# Altium footprint library ESP8684H2.PcbLib: 3 footprints
Each footprint in its own frame and in the unit in brackets; x right, y up, seen from the top. Pads: shape width x height; smd on the part's side, far side on the other; paste and mask are expansions set on the pad; w line width, h text height; cw(c..) or ccw(c..) is an arc to the next point about the centre after c.
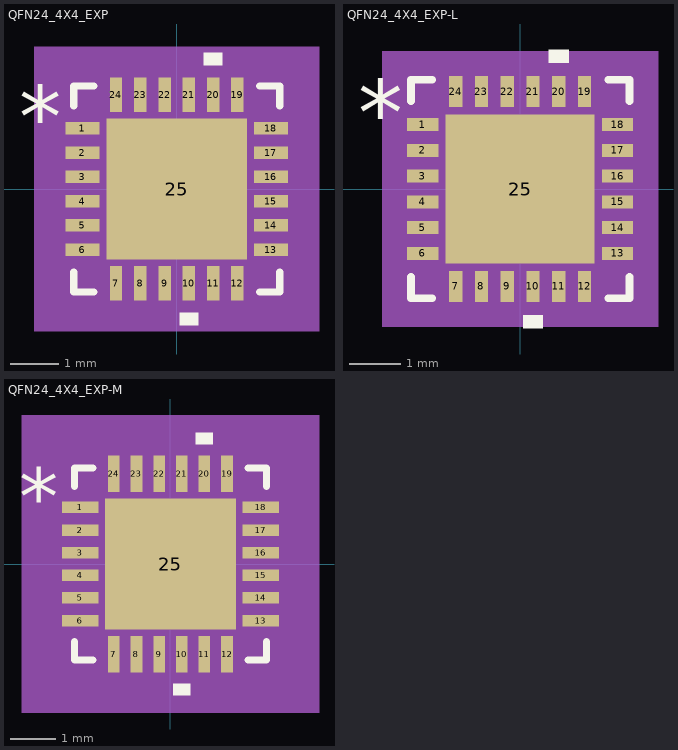
[diagram p0: the footprints below, top view; thin cyan lines are the x and y axes]

## QFN24_4X4_EXP [mm]
pads (25):
  rect 0.706x0.255 smd paste+0 mask+0: 1(-1.941,1.25) 2(-1.941,0.75) 3(-1.941,0.25) 4(-1.941,-0.25) 5(-1.941,-0.75) 6(-1.941,-1.25) 13(1.941,-1.25) 14(1.941,-0.75) 15(1.941,-0.25) 16(1.941,0.25) 17(1.941,0.75) 18(1.941,1.25)
  rect 0.255x0.706 smd paste+0 mask+0: 7(-1.25,-1.941) 8(-0.75,-1.941) 9(-0.25,-1.941) 10(0.25,-1.941) 11(0.75,-1.941) 12(1.25,-1.941) 19(1.25,1.941) 20(0.75,1.941) 21(0.25,1.941) 22(-0.25,1.941) 23(-0.75,1.941) 24(-1.25,1.941)
  rect 2.896x2.896 smd paste-1.435 mask+0: 25(0,0)
Top Overlay:
  region: 0.44,-2.548 0.059,-2.548 0.059,-2.802 0.44,-2.802
  region: 0.941,2.548 0.56,2.548 0.56,2.802 0.941,2.802
  lines w0.152: -2.121,-1.71 -2.121,-2.121 -1.71,-2.121 ; -2.121,1.71 -2.121,2.121 -1.71,2.121 ; 1.71,-2.121 2.121,-2.121 2.121,-1.71 ; 1.71,2.121 2.121,2.121 2.121,1.71
  text "*" at -3.246,0.865 h1.27
Top Paste:
  region: -0.1,1.348 -1.348,1.348 -1.348,0.1 -0.1,0.1
  region: -0.1,-0.1 -1.348,-0.1 -1.348,-1.348 -0.1,-1.348
  region: 1.348,1.348 0.1,1.348 0.1,0.1 1.348,0.1
  region: 1.348,-0.1 0.1,-0.1 0.1,-1.348 1.348,-1.348
Mechanical 5:
  region: 2.929,-2.929 -2.929,-2.929 -2.929,2.929 2.929,2.929
Mechanical 13:
  lines w0.025: -1.994,0.724 -0.724,1.994 ; -1.994,-1.994 1.994,-1.994 ; -1.994,-1.994 -1.994,1.994 ; -1.994,-1.994 -1.994,-1.994 ; -1.994,-1.402 -1.994,-1.098 ; -1.994,-1.402 -1.994,-1.098 ; -1.994,-1.402 -1.994,-1.402 ; -1.994,-1.098 -1.994,-1.098 ; -1.994,-0.902 -1.994,-0.598 ; -1.994,-0.902 -1.994,-0.598 ; -1.994,-0.902 -1.994,-0.902 ; -1.994,-0.598 -1.994,-0.598 ; -1.994,-0.402 -1.994,-0.098 ; -1.994,-0.402 -1.994,-0.098 ; -1.994,-0.402 -1.994,-0.402 ; -1.994,-0.098 -1.994,-0.098 ; -1.994,0.098 -1.994,0.402 ; -1.994,0.098 -1.994,0.402 ; -1.994,0.098 -1.994,0.098 ; -1.994,0.402 -1.994,0.402 ; -1.994,0.598 -1.994,0.902 ; -1.994,0.598 -1.994,0.902 ; -1.994,0.598 -1.994,0.598 ; -1.994,0.902 -1.994,0.902 ; -1.994,1.098 -1.994,1.402 ; -1.994,1.098 -1.994,1.402 ; -1.994,1.098 -1.994,1.098 ; -1.994,1.402 -1.994,1.402 ; -1.994,1.994 1.994,1.994 ; -1.994,1.994 -1.994,1.994 ; -1.402,-1.994 -1.098,-1.994 ; -1.402,-1.994 -1.402,-1.994 ; -1.402,-1.994 -1.098,-1.994 ; -1.402,1.994 -1.098,1.994 ; -1.402,1.994 -1.098,1.994 ; -1.402,1.994 -1.402,1.994 ; -1.098,-1.994 -1.098,-1.994 ; -1.098,1.994 -1.098,1.994 ; -0.902,-1.994 -0.598,-1.994 ; -0.902,-1.994 -0.902,-1.994 ; -0.902,-1.994 -0.598,-1.994 ; -0.902,1.994 -0.598,1.994 ; -0.902,1.994 -0.598,1.994 ; -0.902,1.994 -0.902,1.994 ; -0.598,-1.994 -0.598,-1.994 ; -0.598,1.994 -0.598,1.994 ; -0.402,-1.994 -0.098,-1.994 ; -0.402,-1.994 -0.402,-1.994 ; -0.402,-1.994 -0.098,-1.994 ; -0.402,1.994 -0.098,1.994 ; -0.402,1.994 -0.098,1.994 ; -0.402,1.994 -0.402,1.994 ; -0.098,-1.994 -0.098,-1.994 ; -0.098,1.994 -0.098,1.994 ; 0.098,-1.994 0.402,-1.994 ; 0.098,-1.994 0.098,-1.994 ; 0.098,-1.994 0.402,-1.994 ; 0.098,1.994 0.402,1.994 ; 0.098,1.994 0.402,1.994 ; 0.098,1.994 0.098,1.994 ; 0.402,-1.994 0.402,-1.994 ; 0.402,1.994 0.402,1.994 ; 0.598,-1.994 0.902,-1.994 ; 0.598,-1.994 0.598,-1.994 ; 0.598,-1.994 0.902,-1.994 ; 0.598,1.994 0.902,1.994 ; 0.598,1.994 0.902,1.994 ; 0.598,1.994 0.598,1.994 ; 0.902,-1.994 0.902,-1.994 ; 0.902,1.994 0.902,1.994 ; 1.098,-1.994 1.402,-1.994 ; 1.098,-1.994 1.098,-1.994 ; 1.098,-1.994 1.402,-1.994 ; 1.098,1.994 1.402,1.994 ; 1.098,1.994 1.402,1.994 ; 1.098,1.994 1.098,1.994 ; 1.402,-1.994 1.402,-1.994 ; 1.402,1.994 1.402,1.994 ; 1.994,-1.994 1.994,-1.994 ; 1.994,-1.994 1.994,1.994 ; 1.994,-1.402 1.994,-1.098 ; 1.994,-1.402 1.994,-1.402 ; 1.994,-1.402 1.994,-1.098 ; 1.994,-1.098 1.994,-1.098 ; 1.994,-0.902 1.994,-0.598 ; 1.994,-0.902 1.994,-0.902 ; 1.994,-0.902 1.994,-0.598 ; 1.994,-0.598 1.994,-0.598 ; 1.994,-0.402 1.994,-0.098 ; 1.994,-0.402 1.994,-0.402 ; 1.994,-0.402 1.994,-0.098 ; 1.994,-0.098 1.994,-0.098 ; 1.994,0.098 1.994,0.402 ; 1.994,0.098 1.994,0.098 ; 1.994,0.098 1.994,0.402 ; 1.994,0.402 1.994,0.402 ; 1.994,0.598 1.994,0.902 ; 1.994,0.598 1.994,0.598 ; 1.994,0.598 1.994,0.902 ; 1.994,0.902 1.994,0.902 ; 1.994,1.098 1.994,1.402 ; 1.994,1.098 1.994,1.098 ; 1.994,1.098 1.994,1.402 ; 1.994,1.402 1.994,1.402 ; 1.994,1.994 1.994,1.994
  text "*" at -1.905,0.865 h1.27
Mechanical 15:
  region: -1.631,-2.248 -2.248,-2.248 -2.248,-1.631 -2.548,-1.631 -2.548,1.631 -2.248,1.631 -2.248,2.248 -1.631,2.248 -1.631,2.548 1.631,2.548 1.631,2.248 2.248,2.248 2.248,1.631 2.548,1.631 2.548,-1.631 2.248,-1.631 2.248,-2.248 1.631,-2.248 1.631,-2.548 -1.631,-2.548
  lines w0.152: -2.548,-1.631 -2.248,-1.631 -2.248,-2.248 -1.631,-2.248 -1.631,-2.548 1.631,-2.548 1.631,-2.248 2.248,-2.248 2.248,-1.631 2.548,-1.631 2.548,1.631 2.248,1.631 2.248,2.248 1.631,2.248 1.631,2.548 -1.631,2.548 -1.631,2.248 -2.248,2.248 -2.248,1.631 -2.548,1.631 -2.548,-1.631
3D body "QFN24_4X4_EXP.step": height 0.89, standoff 0, extent -1.994,-1.994 1.994,1.994

## QFN24_4X4_EXP-L [mm]
pads (25):
  rect 0.606x0.255 smd paste+0 mask+0: 1(-1.891,1.25) 2(-1.891,0.75) 3(-1.891,0.25) 4(-1.891,-0.25) 5(-1.891,-0.75) 6(-1.891,-1.25) 13(1.891,-1.25) 14(1.891,-0.75) 15(1.891,-0.25) 16(1.891,0.25) 17(1.891,0.75) 18(1.891,1.25)
  rect 0.255x0.606 smd paste+0 mask+0: 7(-1.25,-1.891) 8(-0.75,-1.891) 9(-0.25,-1.891) 10(0.25,-1.891) 11(0.75,-1.891) 12(1.25,-1.891) 19(1.25,1.891) 20(0.75,1.891) 21(0.25,1.891) 22(-0.25,1.891) 23(-0.75,1.891) 24(-1.25,1.891)
  rect 2.896x2.896 smd paste-1.435 mask+0: 25(0,0)
Top Overlay:
  region: 0.44,-2.448 0.059,-2.448 0.059,-2.702 0.44,-2.702
  region: 0.941,2.448 0.56,2.448 0.56,2.702 0.941,2.702
  lines w0.152: -2.121,-1.71 -2.121,-2.121 -1.71,-2.121 ; -2.121,1.71 -2.121,2.121 -1.71,2.121 ; 1.71,-2.121 2.121,-2.121 2.121,-1.71 ; 1.71,2.121 2.121,2.121 2.121,1.71
  text "*" at -3.146,0.865 h1.27
Top Paste:
  region: -0.1,1.348 -1.348,1.348 -1.348,0.1 -0.1,0.1
  region: -0.1,-0.1 -1.348,-0.1 -1.348,-1.348 -0.1,-1.348
  region: 1.348,1.348 0.1,1.348 0.1,0.1 1.348,0.1
  region: 1.348,-0.1 0.1,-0.1 0.1,-1.348 1.348,-1.348
Mechanical 5:
  region: 2.676,-2.676 -2.676,-2.676 -2.676,2.676 2.676,2.676
Mechanical 13:
  lines w0.025: -1.994,0.724 -0.724,1.994 ; -1.994,-1.994 1.994,-1.994 ; -1.994,-1.994 -1.994,1.994 ; -1.994,-1.994 -1.994,-1.994 ; -1.994,-1.402 -1.994,-1.098 ; -1.994,-1.402 -1.994,-1.098 ; -1.994,-1.402 -1.994,-1.402 ; -1.994,-1.098 -1.994,-1.098 ; -1.994,-0.902 -1.994,-0.598 ; -1.994,-0.902 -1.994,-0.598 ; -1.994,-0.902 -1.994,-0.902 ; -1.994,-0.598 -1.994,-0.598 ; -1.994,-0.402 -1.994,-0.098 ; -1.994,-0.402 -1.994,-0.098 ; -1.994,-0.402 -1.994,-0.402 ; -1.994,-0.098 -1.994,-0.098 ; -1.994,0.098 -1.994,0.402 ; -1.994,0.098 -1.994,0.402 ; -1.994,0.098 -1.994,0.098 ; -1.994,0.402 -1.994,0.402 ; -1.994,0.598 -1.994,0.902 ; -1.994,0.598 -1.994,0.902 ; -1.994,0.598 -1.994,0.598 ; -1.994,0.902 -1.994,0.902 ; -1.994,1.098 -1.994,1.402 ; -1.994,1.098 -1.994,1.402 ; -1.994,1.098 -1.994,1.098 ; -1.994,1.402 -1.994,1.402 ; -1.994,1.994 1.994,1.994 ; -1.994,1.994 -1.994,1.994 ; -1.402,-1.994 -1.098,-1.994 ; -1.402,-1.994 -1.402,-1.994 ; -1.402,-1.994 -1.098,-1.994 ; -1.402,1.994 -1.098,1.994 ; -1.402,1.994 -1.098,1.994 ; -1.402,1.994 -1.402,1.994 ; -1.098,-1.994 -1.098,-1.994 ; -1.098,1.994 -1.098,1.994 ; -0.902,-1.994 -0.598,-1.994 ; -0.902,-1.994 -0.902,-1.994 ; -0.902,-1.994 -0.598,-1.994 ; -0.902,1.994 -0.598,1.994 ; -0.902,1.994 -0.598,1.994 ; -0.902,1.994 -0.902,1.994 ; -0.598,-1.994 -0.598,-1.994 ; -0.598,1.994 -0.598,1.994 ; -0.402,-1.994 -0.098,-1.994 ; -0.402,-1.994 -0.402,-1.994 ; -0.402,-1.994 -0.098,-1.994 ; -0.402,1.994 -0.098,1.994 ; -0.402,1.994 -0.098,1.994 ; -0.402,1.994 -0.402,1.994 ; -0.098,-1.994 -0.098,-1.994 ; -0.098,1.994 -0.098,1.994 ; 0.098,-1.994 0.402,-1.994 ; 0.098,-1.994 0.098,-1.994 ; 0.098,-1.994 0.402,-1.994 ; 0.098,1.994 0.402,1.994 ; 0.098,1.994 0.402,1.994 ; 0.098,1.994 0.098,1.994 ; 0.402,-1.994 0.402,-1.994 ; 0.402,1.994 0.402,1.994 ; 0.598,-1.994 0.902,-1.994 ; 0.598,-1.994 0.598,-1.994 ; 0.598,-1.994 0.902,-1.994 ; 0.598,1.994 0.902,1.994 ; 0.598,1.994 0.902,1.994 ; 0.598,1.994 0.598,1.994 ; 0.902,-1.994 0.902,-1.994 ; 0.902,1.994 0.902,1.994 ; 1.098,-1.994 1.402,-1.994 ; 1.098,-1.994 1.098,-1.994 ; 1.098,-1.994 1.402,-1.994 ; 1.098,1.994 1.402,1.994 ; 1.098,1.994 1.402,1.994 ; 1.098,1.994 1.098,1.994 ; 1.402,-1.994 1.402,-1.994 ; 1.402,1.994 1.402,1.994 ; 1.994,-1.994 1.994,-1.994 ; 1.994,-1.994 1.994,1.994 ; 1.994,-1.402 1.994,-1.098 ; 1.994,-1.402 1.994,-1.402 ; 1.994,-1.402 1.994,-1.098 ; 1.994,-1.098 1.994,-1.098 ; 1.994,-0.902 1.994,-0.598 ; 1.994,-0.902 1.994,-0.902 ; 1.994,-0.902 1.994,-0.598 ; 1.994,-0.598 1.994,-0.598 ; 1.994,-0.402 1.994,-0.098 ; 1.994,-0.402 1.994,-0.402 ; 1.994,-0.402 1.994,-0.098 ; 1.994,-0.098 1.994,-0.098 ; 1.994,0.098 1.994,0.402 ; 1.994,0.098 1.994,0.098 ; 1.994,0.098 1.994,0.402 ; 1.994,0.402 1.994,0.402 ; 1.994,0.598 1.994,0.902 ; 1.994,0.598 1.994,0.598 ; 1.994,0.598 1.994,0.902 ; 1.994,0.902 1.994,0.902 ; 1.994,1.098 1.994,1.402 ; 1.994,1.098 1.994,1.098 ; 1.994,1.098 1.994,1.402 ; 1.994,1.402 1.994,1.402 ; 1.994,1.994 1.994,1.994
  text "*" at -1.905,0.865 h1.27
Mechanical 15:
  region: -1.479,-2.095 -2.095,-2.095 -2.095,-1.479 -2.295,-1.479 -2.295,1.479 -2.095,1.479 -2.095,2.095 -1.479,2.095 -1.479,2.295 1.479,2.295 1.479,2.095 2.095,2.095 2.095,1.479 2.295,1.479 2.295,-1.479 2.095,-1.479 2.095,-2.095 1.479,-2.095 1.479,-2.295 -1.479,-2.295
  lines w0.152: -2.295,-1.479 -2.095,-1.479 -2.095,-2.095 -1.479,-2.095 -1.479,-2.295 1.479,-2.295 1.479,-2.095 2.095,-2.095 2.095,-1.479 2.295,-1.479 2.295,1.479 2.095,1.479 2.095,2.095 1.479,2.095 1.479,2.295 -1.479,2.295 -1.479,2.095 -2.095,2.095 -2.095,1.479 -2.295,1.479 -2.295,-1.479
3D body "QFN24_4X4_EXP.step": height 0.89, standoff 0, extent -1.994,-1.994 1.994,1.994

## QFN24_4X4_EXP-M [mm]
pads (25):
  rect 0.806x0.255 smd paste+0 mask+0: 1(-1.991,1.25) 2(-1.991,0.75) 3(-1.991,0.25) 4(-1.991,-0.25) 5(-1.991,-0.75) 6(-1.991,-1.25) 13(1.991,-1.25) 14(1.991,-0.75) 15(1.991,-0.25) 16(1.991,0.25) 17(1.991,0.75) 18(1.991,1.25)
  rect 0.255x0.806 smd paste+0 mask+0: 7(-1.25,-1.991) 8(-0.75,-1.991) 9(-0.25,-1.991) 10(0.25,-1.991) 11(0.75,-1.991) 12(1.25,-1.991) 19(1.25,1.991) 20(0.75,1.991) 21(0.25,1.991) 22(-0.25,1.991) 23(-0.75,1.991) 24(-1.25,1.991)
  rect 2.896x2.896 smd paste-1.435 mask+0: 25(0,0)
Top Overlay:
  region: 0.44,-2.648 0.059,-2.648 0.059,-2.902 0.44,-2.902
  region: 0.941,2.648 0.56,2.648 0.56,2.902 0.941,2.902
  lines w0.152: -2.121,-1.71 -2.121,-2.121 -1.71,-2.121 ; -2.121,1.71 -2.121,2.121 -1.71,2.121 ; 1.71,-2.121 2.121,-2.121 2.121,-1.71 ; 1.71,2.121 2.121,2.121 2.121,1.71
  text "*" at -3.346,0.865 h1.27
Top Paste:
  region: -0.1,1.348 -1.348,1.348 -1.348,0.1 -0.1,0.1
  region: -0.1,-0.1 -1.348,-0.1 -1.348,-1.348 -0.1,-1.348
  region: 1.348,1.348 0.1,1.348 0.1,0.1 1.348,0.1
  region: 1.348,-0.1 0.1,-0.1 0.1,-1.348 1.348,-1.348
Mechanical 5:
  region: 3.283,-3.283 -3.283,-3.283 -3.283,3.283 3.283,3.283
Mechanical 13:
  lines w0.025: -1.994,0.724 -0.724,1.994 ; -1.994,-1.994 1.994,-1.994 ; -1.994,-1.994 -1.994,1.994 ; -1.994,-1.994 -1.994,-1.994 ; -1.994,-1.402 -1.994,-1.098 ; -1.994,-1.402 -1.994,-1.098 ; -1.994,-1.402 -1.994,-1.402 ; -1.994,-1.098 -1.994,-1.098 ; -1.994,-0.902 -1.994,-0.598 ; -1.994,-0.902 -1.994,-0.598 ; -1.994,-0.902 -1.994,-0.902 ; -1.994,-0.598 -1.994,-0.598 ; -1.994,-0.402 -1.994,-0.098 ; -1.994,-0.402 -1.994,-0.098 ; -1.994,-0.402 -1.994,-0.402 ; -1.994,-0.098 -1.994,-0.098 ; -1.994,0.098 -1.994,0.402 ; -1.994,0.098 -1.994,0.402 ; -1.994,0.098 -1.994,0.098 ; -1.994,0.402 -1.994,0.402 ; -1.994,0.598 -1.994,0.902 ; -1.994,0.598 -1.994,0.902 ; -1.994,0.598 -1.994,0.598 ; -1.994,0.902 -1.994,0.902 ; -1.994,1.098 -1.994,1.402 ; -1.994,1.098 -1.994,1.402 ; -1.994,1.098 -1.994,1.098 ; -1.994,1.402 -1.994,1.402 ; -1.994,1.994 1.994,1.994 ; -1.994,1.994 -1.994,1.994 ; -1.402,-1.994 -1.098,-1.994 ; -1.402,-1.994 -1.402,-1.994 ; -1.402,-1.994 -1.098,-1.994 ; -1.402,1.994 -1.098,1.994 ; -1.402,1.994 -1.098,1.994 ; -1.402,1.994 -1.402,1.994 ; -1.098,-1.994 -1.098,-1.994 ; -1.098,1.994 -1.098,1.994 ; -0.902,-1.994 -0.598,-1.994 ; -0.902,-1.994 -0.902,-1.994 ; -0.902,-1.994 -0.598,-1.994 ; -0.902,1.994 -0.598,1.994 ; -0.902,1.994 -0.598,1.994 ; -0.902,1.994 -0.902,1.994 ; -0.598,-1.994 -0.598,-1.994 ; -0.598,1.994 -0.598,1.994 ; -0.402,-1.994 -0.098,-1.994 ; -0.402,-1.994 -0.402,-1.994 ; -0.402,-1.994 -0.098,-1.994 ; -0.402,1.994 -0.098,1.994 ; -0.402,1.994 -0.098,1.994 ; -0.402,1.994 -0.402,1.994 ; -0.098,-1.994 -0.098,-1.994 ; -0.098,1.994 -0.098,1.994 ; 0.098,-1.994 0.402,-1.994 ; 0.098,-1.994 0.098,-1.994 ; 0.098,-1.994 0.402,-1.994 ; 0.098,1.994 0.402,1.994 ; 0.098,1.994 0.402,1.994 ; 0.098,1.994 0.098,1.994 ; 0.402,-1.994 0.402,-1.994 ; 0.402,1.994 0.402,1.994 ; 0.598,-1.994 0.902,-1.994 ; 0.598,-1.994 0.598,-1.994 ; 0.598,-1.994 0.902,-1.994 ; 0.598,1.994 0.902,1.994 ; 0.598,1.994 0.902,1.994 ; 0.598,1.994 0.598,1.994 ; 0.902,-1.994 0.902,-1.994 ; 0.902,1.994 0.902,1.994 ; 1.098,-1.994 1.402,-1.994 ; 1.098,-1.994 1.098,-1.994 ; 1.098,-1.994 1.402,-1.994 ; 1.098,1.994 1.402,1.994 ; 1.098,1.994 1.402,1.994 ; 1.098,1.994 1.098,1.994 ; 1.402,-1.994 1.402,-1.994 ; 1.402,1.994 1.402,1.994 ; 1.994,-1.994 1.994,-1.994 ; 1.994,-1.994 1.994,1.994 ; 1.994,-1.402 1.994,-1.098 ; 1.994,-1.402 1.994,-1.402 ; 1.994,-1.402 1.994,-1.098 ; 1.994,-1.098 1.994,-1.098 ; 1.994,-0.902 1.994,-0.598 ; 1.994,-0.902 1.994,-0.902 ; 1.994,-0.902 1.994,-0.598 ; 1.994,-0.598 1.994,-0.598 ; 1.994,-0.402 1.994,-0.098 ; 1.994,-0.402 1.994,-0.402 ; 1.994,-0.402 1.994,-0.098 ; 1.994,-0.098 1.994,-0.098 ; 1.994,0.098 1.994,0.402 ; 1.994,0.098 1.994,0.098 ; 1.994,0.098 1.994,0.402 ; 1.994,0.402 1.994,0.402 ; 1.994,0.598 1.994,0.902 ; 1.994,0.598 1.994,0.598 ; 1.994,0.598 1.994,0.902 ; 1.994,0.902 1.994,0.902 ; 1.994,1.098 1.994,1.402 ; 1.994,1.098 1.994,1.098 ; 1.994,1.098 1.994,1.402 ; 1.994,1.402 1.994,1.402 ; 1.994,1.994 1.994,1.994
  text "*" at -1.905,0.865 h1.27
Mechanical 15:
  region: -1.885,-2.502 -2.502,-2.502 -2.502,-1.885 -2.902,-1.885 -2.902,1.885 -2.502,1.885 -2.502,2.502 -1.885,2.502 -1.885,2.902 1.885,2.902 1.885,2.502 2.502,2.502 2.502,1.885 2.902,1.885 2.902,-1.885 2.502,-1.885 2.502,-2.502 1.885,-2.502 1.885,-2.902 -1.885,-2.902
  lines w0.152: -2.902,-1.885 -2.502,-1.885 -2.502,-2.502 -1.885,-2.502 -1.885,-2.902 1.885,-2.902 1.885,-2.502 2.502,-2.502 2.502,-1.885 2.902,-1.885 2.902,1.885 2.502,1.885 2.502,2.502 1.885,2.502 1.885,2.902 -1.885,2.902 -1.885,2.502 -2.502,2.502 -2.502,1.885 -2.902,1.885 -2.902,-1.885
3D body "QFN24_4X4_EXP.step": height 0.89, standoff 0, extent -1.994,-1.994 1.994,1.994